# EAGLE library part 1.8TFT_ADA (library MakeItLabs)
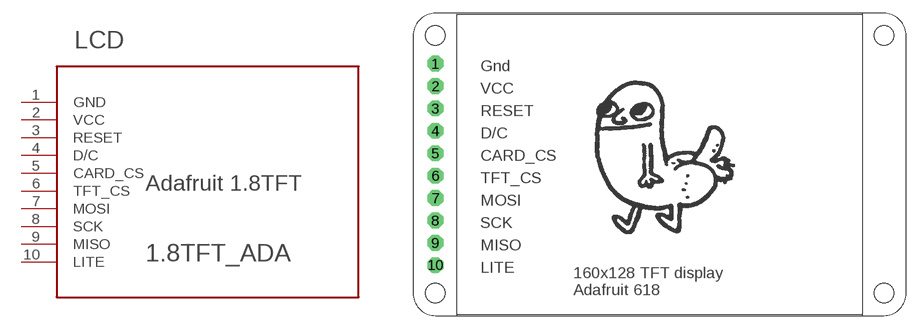
[diagram p13: symbol with the pads of 1.8TFT_ADA; footprint 1.8TFT_ADA]

Designator prefix LCD

## 1.8TFT_ADA  [1.8TFT_ADA]
1  GND
2  VCC
3  RESET
4  D/C
5  CARD_CS
6  TFT_CS
7  MOSI
8  SCK
9  MISO
10  LITE

## Footprint 1.8TFT_ADA (pad centres in mm)
drill 1.016 pad 1.778 octagon: 1 -25.4,11.43; 2 -25.4,8.89; 3 -25.4,6.35; 4 -25.4,3.81; 5 -25.4,1.27; 6 -25.4,-1.27; 7 -25.4,-3.81; 8 -25.4,-6.35; 9 -25.4,-8.89; 10 -25.4,-11.43
hole 2.2 at -25.4,14.605
hole 2.2 at -25.4,-14.605
hole 2.2 at 25.4,14.605
hole 2.2 at 25.4,-14.605